# Altium schematic symbol library Mos_ROHM_EM6K6T2R_N_300mA.SchLib: 1 symbol
Pins are listed as number, name and electrical type; pins without a type are passive.

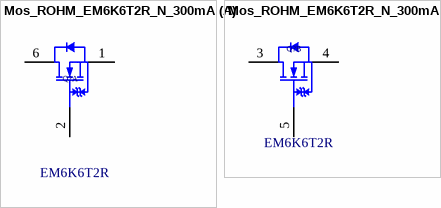
[diagram p0: symbol Mos_ROHM_EM6K6T2R_N_300mA]

## Mos_ROHM_EM6K6T2R_N_300mA
designator Q?  Series: EM6K6T2R  (hidden comment: Mos_ROHM_EM6K6T2R_N_300mA)
MOSFET Small Signal Dual N-CH 20V .3A .15W; Supplier Part Number 1: 755-EM6K6T2R; Supplier 1: Mouser
footprint Mos_ROHM_EM6K6T2R_N_300mA (MOSFET Small Signal Dual N-CH 20V .3A .15W)
part A pins: 1 S, 2 G, 6 D
part B pins: 3 D, 4 S, 5 G